# EAGLE library part AD7998 (library ecssr)
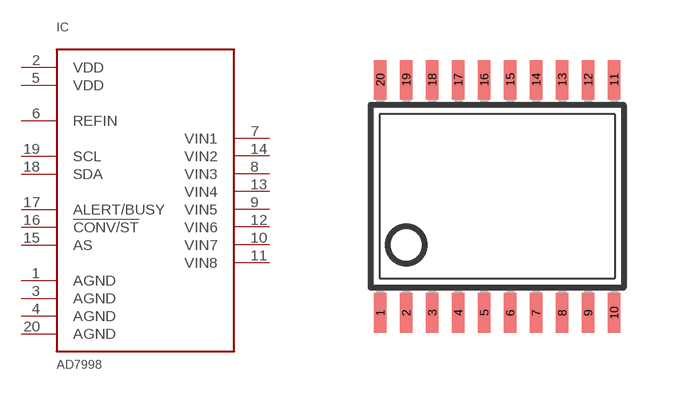
[diagram p0: symbol with the pads of TSSOP20; footprint TSSOP20]

Designator prefix IC

## AD7998  [TSSOP20]
1  AGND  pwr
2  VDD  pwr
3  AGND  pwr
4  AGND  pwr
5  VDD  pwr
6  REFIN  in
7  VIN1  in
8  VIN3  in
9  VIN5  in
10  VIN7  in
11  VIN8  in
12  VIN6  in
13  VIN4  in
14  VIN2  in
15  AS
16  !CONV/ST
17  ALERT/BUSY  out
18  SDA
19  SCL  in
20  AGND  pwr

## Footprint TSSOP20 (pad centres in mm)
smd 0.305 x 0.991: 1 -2.925,-2.918; 2 -2.275,-2.918; 3 -1.625,-2.918; 4 -0.975,-2.918; 5 -0.325,-2.918; 6 0.325,-2.918; 7 0.975,-2.918; 8 1.625,-2.918; 9 2.275,-2.918; 10 2.925,-2.918; 11 2.925,2.918; 12 2.275,2.918; 13 1.625,2.918; 14 0.975,2.918; 15 0.325,2.918; 16 -0.325,2.918; 17 -0.975,2.918; 18 -1.625,2.918; 19 -2.275,2.918; 20 -2.925,2.918